# Altium schematic symbol library BLDC_Board_Library.SCHLIB: 19 symbols
Pins are listed as number, name and electrical type; pins without a type are passive.

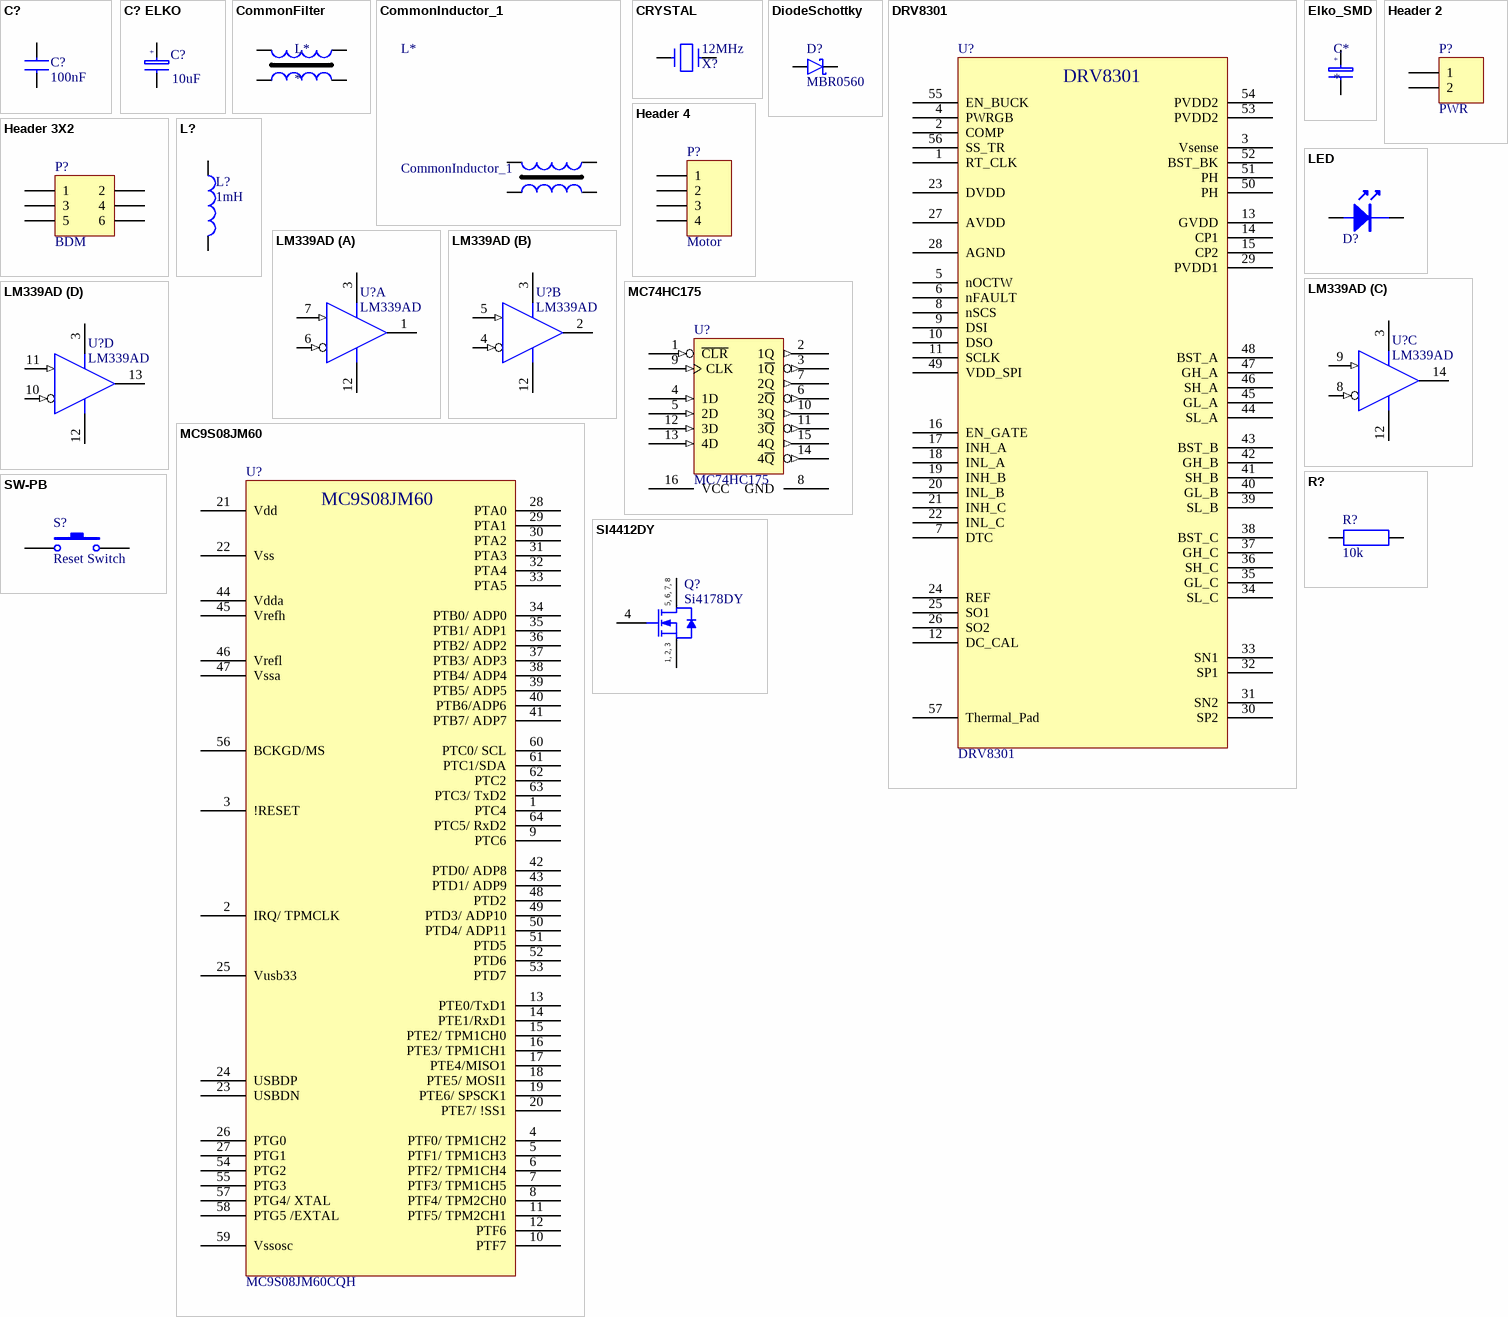
[diagram p0: symbols C? to SW-PB]

## C?
designator C?, comment 100nF
Normaler Kondensator; Value: 100nF; Distributor: Elektrowerkstatt
footprint 0805 (0805 (2012), 2 x 1.25mm (l x b))
pins: 1, 2

## C? ELKO
designator C?, comment 10uF
Elektrolyt /polarisierter Kondensator; Distributor: Farnell; Distributor Nr.: 1457414; Price: 0.402; Value: 10uF
footprint ElkoFootprint
footprint CAPPA14.05-10.5x6.3 (Capacitor, Electrolytic, Axial; Body 10.5 x 6.3 mm (LxDia. max), Lead Dia. 0.6 mm (typ))
pins: 1, 2
text: +

## CommonFilter
designator L*
footprint BNX
pins: 1, 2, 3, 4, 5, 6

## CommonInductor_1
designator L*
footprint SPM2007
pins: 1, 2, 3, 4

## CRYSTAL
designator X?, comment 12MHz
Distributor Nr.: 1667016; Distributor: Farnell; Price: 1.40; Value: 12MHz
footprint HC/49US (ABLS HC/49US Quarz)
pins: 1, 2

## DiodeSchottky
designator D?, comment MBR0560
Schottky Diode; Value: BAT760; Distributor Nr.: 1835691; Price: 0.39; Distributor: Farnell
footprint SOD-123
pins: A, K

## DRV8301
designator U?
footprint HTSSOP56 (Shrink Small Outline; 56 Leads; Body Width 6.1 mm; Pitch 0.5 mm)
pins: 1 RT_CLK, 2 COMP, 3 Vsense, 4 PWRGB, 5 nOCTW, 6 nFAULT, 7 DTC, 8 nSCS, 9 DSI, 10 DSO, 11 SCLK, 12 DC_CAL, 13 GVDD, 14 CP1, 15 CP2, 16 EN_GATE, 17 INH_A, 18 INL_A, 19 INH_B, 20 INL_B, 21 INH_C, 22 INL_C, 23 DVDD, 24 REF, 25 SO1, 26 SO2, 27 AVDD, 28 AGND, 29 PVDD1, 30 SP2, 31 SN2, 32 SP1, 33 SN1, 34 SL_C, 35 GL_C, 36 SH_C, 37 GH_C, 38 BST_C, 39 SL_B, 40 GL_B, 41 SH_B, 42 GH_B, 43 BST_B, 44 SL_A, 45 GL_A, 46 SH_A, 47 GH_A, 48 BST_A, 49 VDD_SPI, 50 PH, 51 PH, 52 BST_BK, 53 PVDD2, 54 PVDD2, 55 EN_BUCK, 56 SS_TR, 57 Thermal_Pad

## Elko_SMD
designator C*
footprint ElkoFootprint
pins: + 1, - 2

## Header 2
designator P?, comment PWR
Header, 2-Pin; LatestRevisionDate: 17-Jul-2002; LatestRevisionNote: Re-released for DXP Platform.; Publisher: Altium Limited
footprint Stecker_1x2_200mil
signal-integrity model Connector
pins: 1, 2

## Header 3X2
designator P?, comment BDM
Header, 3-Pin, Dual row; Value: 2x16kont; Distributor: Farnell; Distributor Nr.: 1248128; Price: 5.40
footprint HDR2X3 (Connector; Header; 3x2 Position)
signal-integrity model Connector
pins: 1, 2, 3, 4, 5, 6

## Header 4
designator P?, comment Motor
Header, 4-Pin; LatestRevisionDate: 17-Jul-2002; LatestRevisionNote: Re-released for DXP Platform.; Publisher: Altium Limited
footprint Stecker_1x4_200mil
signal-integrity model Connector
pins: 1, 2, 3, 4

## L?
designator L?, comment 1mH
SRR1005-122K; Bestellnummer: 652-SRR1005-122K; Hersteller: Bourns; Distributor: Mouser; Hersteller-Nr.: SRR1005-122K
footprint SRR6603
pins: 1, 2

## LED
designator D?  (value not drawn)
footprint 0805
pins: 1, 2

## LM339AD
designator U?
Quad Differential Comparator; Published: 15-Apr-2002; LatestRevisionDate: 13-Apr-2006; LatestRevisionNote: IPC-7351 Footprint Added.; DatasheetVersion: Apr-1988; PackageVersion: Jan-1998; PackageReference: D014; Publisher: Altium Limited; PackageDescription: 14-Pin Small Outline Integrated Circuit 1.27 mm Pitch; Code_IPC: SOIC127P600-14; ComponentLink1Description: Manufacturer Link; ComponentLink1URL: http://www.ti.com/; ComponentLink2Description: Datasheet; ComponentLink2URL: http://www-s.ti.com/sc/ds/lm139a.pdf
footprint D014_N (SOIC, 14-Leads, Body 8.7x3.9mm, Pitch 1.27mm, IPC Medium Density)
footprint D014_L (SOIC, 14-Leads, Body 8.7x3.9mm, Pitch 1.27mm, IPC High Density)
footprint D014_M (SOIC, 14-Leads, Body 8.7x3.9mm, Pitch 1.27mm, IPC Low Density)
3D model D014 (14-Pin Small Outline Integrated Circuit 1.27 mm Pitch)
pins on every part: 3 VCC (power), 12 GND (power)
part A pins: 1 OUT (oc), 6 IN- (in), 7 IN+ (in)
part B pins: 2 OUT (oc), 4 IN- (in), 5 IN+ (in)
part C pins: 8 IN- (in), 9 IN+ (in), 14 OUT (oc)
part D pins: 10 IN- (in), 11 IN+ (in), 13 OUT (oc)

## MC9S08JM60
designator U?, comment MC9S08JM60CQH
MCU; Distributor: Farnell; Distributor Nr.: 1562860; Price: 6.55; Value: MC9S08JM60CQH
footprint QFP64(14x14) (QFP, 64-Leads, Body 17,5x17,5mm (max), Pitch 0,80mm, IPC Low Density)
pins: 1 PTC4, 2 IRQ/ TPMCLK, 3 !RESET, 4 PTF0/ TPM1CH2, 5 PTF1/ TPM1CH3, 6 PTF2/ TPM1CH4, 7 PTF3/ TPM1CH5, 8 PTF4/ TPM2CH0, 9 PTC6, 10 PTF7, 11 PTF5/ TPM2CH1, 12 PTF6, 13 PTE0/TxD1, 14 PTE1/RxD1, 15 PTE2/ TPM1CH0, 16 PTE3/ TPM1CH1, 17 PTE4/MISO1, 18 PTE5/ MOSI1, 19 PTE6/ SPSCK1, 20 PTE7/ !SS1, 21 Vdd, 22 Vss, 23 USBDN, 24 USBDP, 25 Vusb33, 26 PTG0, 27 PTG1, 28 PTA0, 29 PTA1, 30 PTA2, 31 PTA3, 32 PTA4, 33 PTA5, 34 PTB0/ ADP0, 35 PTB1/ ADP1, 36 PTB2/ ADP2, 37 PTB3/ ADP3, 38 PTB4/ ADP4, 39 PTB5/ ADP5, 40 PTB6/ADP6, 41 PTB7/ ADP7, 42 PTD0/ ADP8, 43 PTD1/ ADP9, 44 Vdda, 45 Vrefh, 46 Vrefl, 47 Vssa, 48 PTD2, 49 PTD3/ ADP10, 50 PTD4/ ADP11, 51 PTD5, 52 PTD6, 53 PTD7, 54 PTG2, 55 PTG3, 56 BCKGD/MS, 57 PTG4/ XTAL, 58 PTG5 /EXTAL, 59 Vssosc, 60 PTC0/ SCL, 61 PTC1/SDA, 62 PTC2, 63 PTC3/ TxD2, 64 PTC5/ RxD2

## MC74HC175
designator U?
QUAD D-TYPE FF CR
footprint DIP-16
footprint SO16
pins: 1 ~{CLR} (in), 2 1Q (out), 3 1~{Q} (out), 4 1D (in), 5 2D (in), 6 2~{Q} (out), 7 2Q (out), 8 GND (power), 9 CLK (in), 10 3Q (out), 11 3~{Q} (out), 12 3D (in), 13 4D (in), 14 4~{Q} (out), 15 4Q (out), 16 VCC (power)
1 alternate drawing of the same symbol

## R?
designator R?, comment 10k
Normaler Widerstand; Value: 10k; Distributor: Elektrowerkstatt
footprint 0805 (0805 (2012), 2 x 1.25mm (l x b))
pins: 1, 2

## SI4412DY
designator Q?, comment Si4178DY
N-Channel 30V (D-S)  Rated MOSFET; Published: 8-Jun-2000; LatestRevisionDate: 13-Apr-2006; LatestRevisionNote: IPC-7351 Footprint Added.; DatasheetVersion: 6-Oct-1997; PackageVersion: Aug-1998; PackageReference: SO-8; Publisher: Altium Limited; PackageDescription: 8-Pin Small Outline Integrated Circuit 1.27 mm Pitch; ComponentLink1Description: Manufacturer Link; ComponentLink1URL: http://www.vishay.com/; ComponentLink2Description: Datasheet; ComponentLink2URL: http://www.vishay.com/docs/70154/70154.pdf
footprint SO-8_N (SOIC, 8-Leads, Body 4.9x3.9mm, Pitch 1.27mm, IPC Medium Density)
footprint SO-8_L (SOIC, 8-Leads, Body 4.9x3.9mm, Pitch 1.27mm, IPC High Density)
footprint SO-8_M (SOIC, 8-Leads, Body 4.9x3.9mm, Pitch 1.27mm, IPC Low Density)
3D model SO-8 (8-Pin Small Outline Integrated Circuit 1.27 mm Pitch)
simulation model SI4412DY (SUBCKT)
pins: 1 S, 2 S, 3 S, 4 G, 5 D, 6 D, 7 D, 8 D
text: 5, 6, 7, 8; 1, 2, 3

## SW-PB
designator S?, comment Reset Switch
Switch; Distributor: Farnell; Distributor Nr.: 1217763; Price: 0.698; Value: Reset Switch
footprint Switch
pins: 1, 2